# Altium schematic symbol library PBL - Light Sources.SCHLIB: 23 symbols
Pins are listed as number, name and electrical type; pins without a type are passive.

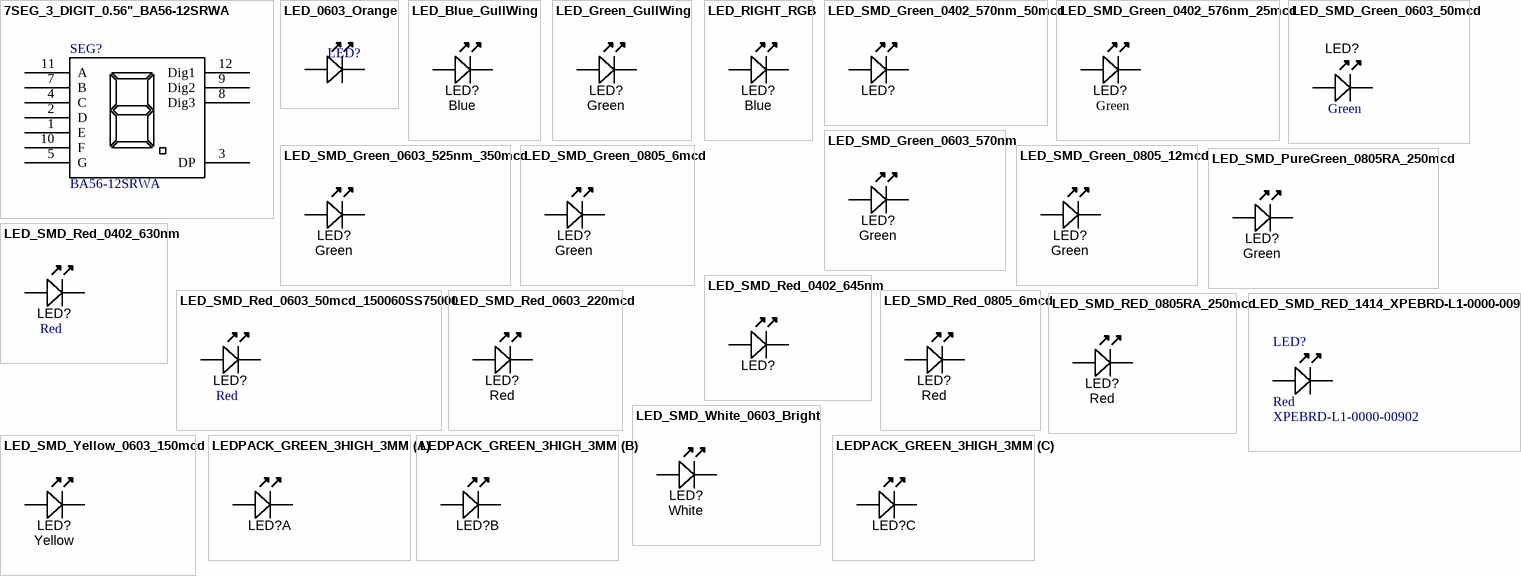
[diagram p0: symbols 7SEG_3_DIGIT_0.56"_BA56-12SRWA to LEDPACK_GREEN_3HIGH_3MM]

## 7SEG_3_DIGIT_0.56"_BA56-12SRWA
designator SEG?, comment BA56-12SRWA
Character LED Display Module Red 7-Segment 3 Character Common Anode 1.85V 20mA 1.480" H x 0.748" W x 0.319" D (37.60mm x 19.00mm x 8.10mm) 12-DIP (0.600", 15.24mm); Manufacturer: Kingbright; Number of Characters: 3; Digit/Alpha Size: 0.56" (14.22mm); Millicandela Rating: 34mcd; Wavelength - Peak: 660nm; Power Dissipation (Max): 75mW; Supplier 1: Digi-Key; Supplier Part Number 1: 754-1657-5-ND; RoHS: RoHS Compliant; Category: Optoelectronics; Stock 1: 4494; Pricing 1: 1=3.57, 10=2.975, 25=2.4992, 100=2.142, 250=1.904, 500=1.7255, 1000=1.5827, 2500=1.51725, 5000=1.4756 (USD); Packaging: Tube; Part Status: Active; Size / Dimension: 1.480" H x 0.748" W x 0.319" D (37.60mm x 19.00mm x 8.10mm); Display Type: 7-Segment; Common Pin: Common Anode; Color: Red; Voltage - Forward (Vf) (Typ): 1.85V; Current - Test: 20mA; Package / Case: 12-DIP (0.600", 15.24mm); ComponentLink1URL: http://www.kingbrightusa.com/images/catalog/SPEC/BA56-12SRWA.pdf; ComponentLink1Description: http://www.kingbrightusa.com/images/catalog/SPEC/BA56-12SRWA.pdf; Manufacturer Part Number: BA56-12SRWA
footprint 7SEG_3_DIGIT_0.56"_BA56-12SRWA
pins: 1 E, 2 D, 3 DP, 4 C, 5 G, 7 B, 8 Dig3, 9 Dig2, 10 F, 11 A, 12 Dig1

## LED_0603_Orange
designator LED?, comment LO L296-Q2S1-24-Z  (value not drawn)
LED ORANGE DIFFUSED 0603 SMD; Manufacturer: OSRAM Opto Semiconductors Inc.; Lens Color: White; Millicandela Rating: 157mcd; Lens Style/Size: Rectangle with Flat Top, 1.30mm x 0.80mm; Voltage - Forward (Vf) (Typ): 2V; Current - Test: 20mA; Viewing Angle: 160°; Wavelength - Dominant: 605nm; Supplier 1: Digi-Key; Manufacturer Part Number: LO L296-Q2S1-24-Z; Packaging: Cut Tape (CT); Part Status: Active; Color: Orange; Lens Transparency: Diffused; Mounting Type: Surface Mount; Wavelength - Peak: -; Features: -; Package / Case: 0603 (1608 Metric); Size / Dimension: 1.70mm L x 0.80mm W; Height (Max): 0.65mm; ComponentLink1URL: http://www.osram-os.com/Graphics/XPic9/00077122_0.pdf; ComponentLink1Description: http://www.osram-os.com/Graphics/XPic9/00077122_0.pdf; Supplier Part Number 1: 475-2739-1-ND; RoHS: RoHS Compliant; Category: Optoelectronics; Stock 1: 4435; Pricing 1: 1=0.34, 10=0.245, 25=0.2004, 100=0.1603, 250=0.13524, 500=0.11522, 1000=0.09017, 2500=0.08349 (USD)
footprint LED-0603-AMBER
pins: A, K

## LED_Blue_GullWing
designator LED?  Color: Blue  (hidden comment: *)
LED, Gull-wing SMD, High-intensity blue; Manufacturer 1: Ligitek; Manufacturer Part Number 1: LDBK9033/TR1; Ratings: 350 mcd; SCDType: source; Package / Case: 4.6mm Gull-Wing
footprint LED_GULL1
pins: A, K

## LED_Green_GullWing
designator LED?  Color: Green  (hidden comment: *)
LED Gull-wing SMD High-intensity Green 450mcd 574nm; Manufacturer 1: Ligitek; Manufacturer Part Number 1: L8UG9033/TR1; Ratings: 450 mcd; 574 nm; Material: AlGaInP; SCDType: source; Package / Case: 4.6mm Gull-Wing
footprint LED_GULL1
pins: A, K

## LED_RIGHT_RGB
designator LED?, comment Color: Blue  (hidden comment: APFA3010LSEEZGKQBKC)
Red, Green, Blue (RGB) 621nm Red, 525nm Green, 465nm Blue LED Indication - Discrete 2.1V Red, 3.1V Green, 3.1V Blue 4-SMD, No Lead; Manufacturer 1: Ligitek; Manufacturer Part Number 1: LDBK9033/TR1; Ratings: 350 mcd; SCDType: source; Package / Case: 4.6mm Gull-Wing; Supplier 1: Digi-Key; Supplier Part Number 1: 754-1971-1-ND
footprint LED_RIGHT_APFA3010LSEEZGKQBKC (LED RGB 621NM 525NM 465NM 4SMD)
pins: A, K

## LED_SMD_Green_0402_570nm_50mcd
designator LED?, comment APHHS1005CGCK  (value not drawn)
LED 0402SMD Green 570nm 50mcd 20mA; Supplier 1: Mouser; Supplier Part Number 1: 604-APHHS1005CGCK
footprint LED-0402-Green
pins: A, K

## LED_SMD_Green_0402_576nm_25mcd
designator LED?, comment Color: Green  (hidden comment: SML-P12M2TT86R)
LED 0402SMD Green 576nm 25mcd 20mA; Supplier 1: Digi-Key; Supplier Part Number 1: 846-1197-1-ND
footprint LED-0402-Green -ROHM
pins: A, K

## LED_SMD_Green_0603_50mcd
designator LED?, comment Color: Green  (hidden comment: APT1608CGCK)
Green 570nm LED Indication - Discrete 2.1V 0603 (1608 Metric); Manufacturer: Kingbright; Lens Color: Colorless; Lens Transparency: Clear; Millicandela Rating: 50mcd; Lens Style/Size: Rectangle with Flat Top, 1.20mm x 0.80mm; Current - Test: 20mA; Viewing Angle: 120°; Wavelength - Peak: 574nm; Supplier 1: Digi-Key; Supplier Part Number 1: 754-1116-1-ND; Manufacturer Part Number: APT1608CGCK; Packaging: Cut Tape (CT); Part Status: Active; Voltage - Forward (Vf) (Typ): 2.1V; Mounting Type: Surface Mount; Wavelength - Dominant: 570nm; Features: -; Package / Case: 0603 (1608 Metric); Supplier Device Package: Chip LED; Size / Dimension: 1.60mm L x 0.80mm W; Height (Max): 0.75mm; ComponentLink1URL: http://www.kingbrightusa.com/images/catalog/SPEC/APT1608CGCK.pdf; ComponentLink1Description: http://www.kingbrightusa.com/images/catalog/SPEC/APT1608CGCK.pdf; RoHS: RoHS Compliant; Category: Optoelectronics; Stock 1: 896844; Pricing 1: 1=0.47, 10=0.337, 25=0.258, 100=0.1683, 250=0.12344, 500=0.10472, 1000=0.08602 (USD)
footprint LED-0603-GREEN
pins: A, K

## LED_SMD_Green_0603_525nm_350mcd
designator LED?, comment Green
LED 0603 SMD Green 525nm 350mcd 20mA; Material: InGaN; Ratings: 200mcd min; 350 mcd typ @ 20mA; Voltage - Forward (Vf) @ 10mA: 3.1V; Viewing Angle: 120°; Lens Style/Size: Rectangle with Flat Top, 1.2mm x 0.8mm; Voltage - Forward (Vf) @ 20mA: 3.3V; SCDType: source; Package / Case: 0603 (1608 metric); Color: Green; Current - Test: 20mA; ComponentLink1URL: http://www.mouser.com/ds/2/216/APT1608ZGCK-262051.pdf; ComponentLink1Description: http://www.mouser.com/ds/2/216/APT1608ZGCK-262051.pdf; ComponentLink2Description: APT1608-WAP24 Datasheet; ComponentLink2URL: \\SVFI2\PBLShare\Eng\Electrical Engineering\Hardware\Altium\Libraries and Templates\Unreleased Components\Part Number Request 2013-10-02\APT1608-WAP24(Ver.1B).pdf; Supplier 1: Digi-Key; Supplier Part Number 1: 160-1183-1-ND
footprint LED-0603-GREEN
pins: A, K

## LED_SMD_Green_0603_570nm
designator LED?, comment Green
LED 0603 SMD Green 570nm 50mcd 20mA; Manufacturer 1: Kingbright Company LLC; Manufacturer Part Number 1: APT1608CGCK; Material: AlGaInP; Ratings: 20mcd min; 50 mcd typ; 570 nm; Voltage - Forward (Vf) Typ: 2.1V; Viewing Angle: 120°; Lens Style/Size: Rectangle with Flat Top, 1.1mm x 0.8mm; Voltage - Forward (Vf) @ 10mA: 2.0V; SCDType: source; Wavelength - Peak: 574nm; Lens Type: Clear; Package / Case: 0603 (1608 metric); Color: Green; Current - Test: 20mA; Supplier 1: Digi-Key; Supplier Part Number 1: 754-1116-1-ND; RoHS 1: RoHS Compliant; Wavelength - Dominant: 570nm; ComponentLink1URL: http://www.us.kingbright.com/images/catalog/SPEC/APT1608CGCK.pdf; ComponentLink1Description: http://www.us.kingbright.com/images/catalog/SPEC/APT1608CGCK.pdf
footprint LED-0603-GREEN
pins: A, K

## LED_SMD_Green_0805_6mcd
designator LED?  Color: Green
LED, 0805 SMD, Green; Manufacturer 1: LITE-ON; Manufacturer Part Number 1: LTST-C171GKT; Material: GaP; Ratings: 6 mcd; 569 nm; SCDType: source; Package / Case: 0805; Supplier 1: Digi-Key; Supplier Part Number 1: 160-1423-1-ND; Value: Green
footprint LED-0805-K
pins: A, K

## LED_SMD_Green_0805_12mcd
designator LED?, comment Green
LED 0805 SMD Green 12mcd 569nm; Manufacturer 1: LITE-ON; Manufacturer Part Number 1: LTST-C171GKT; Material: GaP; Ratings: 12 mcd; 569 nm; SCDType: source; Package / Case: 0805; Supplier 1: Digi-Key; Supplier Part Number 1: 160-1423-1-ND; Value: Green; Color: Green
footprint LED-0805-K
pins: A, K

## LED_SMD_PureGreen_0805RA_250mcd
designator LED?, comment Green
LED 0805 SIDELED SMD Green 250mcd 525nm; Manufacturer 1: Kingbright Corp; Manufacturer Part Number 1: APA2106ZGC; Material: InGaN; Ratings: 250 mcd; 525 nm; SCDType: source; Package / Case: 2.1x0.6x1.0mm SIDELED; Value: Green; Supplier 1: Digi-Key; Supplier Part Number 1: 754-1062-1-ND; Color: Green
footprint LED-0805S-SIDELED-2.1X0.6X1.0 (Lite-On Inc PLCC Side LED)
pins: A, K

## LED_SMD_Red_0402_630nm
designator LED?, comment Color: Red  (hidden comment: SML-P12VTT86R)
LED 0402SMD Red 630nm 60mcd 20mA; Supplier 1: Digi-Key; Supplier Part Number 1: 846-1168-1-ND
footprint LED-0402-Red -ROHM
pins: A, K

## LED_SMD_Red_0402_645nm
designator LED?, comment LNJ247W82RA  (value not drawn)
LED 0402SMD Red 645nm 49mcd 20mA
footprint LED-0402-Red
pins: A, K

## LED_SMD_Red_0603_50mcd_150060SS75000
designator LED?, comment Colour: Red  (hidden comment: 150060SS75000)
Red 630nm LED Indication - Discrete 1.9V 0603 (1608 Metric); Manufacturer: Wurth Electronics; Voltage - Forward (Vf) Typ: 1.95V; Description: WURTH ELEKTRONIK   150060SS75000   LED, 0603, SUP RED, 60MCD, 630NM; Luminous Intensity: 60mcd; Viewing Angle: 140°; Lens Style: Clear,Rectangular; Forward Current: 30mA; Test Current: 20mA; Voltage - Forward (Vf) @ 10mA: 1.9V; ComponentLink1URL: http://www.us.kingbright.com/images/catalog/SPEC/APT1608SURCK.pdf; ComponentLink1Description: http://www.us.kingbright.com/images/catalog/SPEC/APT1608SURCK.pdf; Supplier 1: Digi-Key; Supplier Part Number 1: 732-4979-6-ND; Stock 1: 20397; Pricing 1: 1=0.14, 50=0.129, 100=0.11, 500=0.095 (USD); Mount: Surface Mount; Case/Package: 0603; Case Code (Metric): 1608; Case Code (Imperial): 0603; Min Operating Temperature: -40°C; Max Operating Temperature: 85°C; Forward Voltage: 1.9V; Wavelength: 630nm; Package Quantity: 4000; Packaging: Tape and Reel; Dominant Wavelength: 630nm; Length: 1.6mm; Height: 0.7mm; Width: 0.8mm; REACH SVHC: Unknown; ComponentLink2URL: https://datasheet.ciiva.com/23843/150060ss75000-23843248.pdf; ComponentLink2Description: https://datasheet.ciiva.com/23843/150060ss75000-23843248.pdf; ComponentLink3URL: https://datasheet.ciiva.com/48430/150060ss75000-eng-tds-48430042.pdf; ComponentLink3Description: https://datasheet.ciiva.com/48430/150060ss75000-eng-tds-48430042.pdf; ComponentLink4URL: https://datasheet.ciiva.com/29279/759429-da-01-en-chipled-0603-w-kl-s-rot-150060ss75000-29279208.pdf; ComponentLink4Description: https://datasheet.ciiva.com/29279/759429-da-01-en-chipled-0603-w-kl-s-rot-150060ss75000-29279208.pdf; Manufacturer Part Number: 150060SS75000
footprint LED-0603-RED
pins: A, K

## LED_SMD_Red_0603_220mcd
designator LED?, comment Red
LED 0603 SMD Hyper Red 630nm 220mcd 20mA; Manufacturer 1: Kingbright Company LLC; Manufacturer Part Number 1: APT1608SURCK; Material: AlGaInP on GaAs; Ratings: 220 mcd; 630 nm; Voltage - Forward (Vf) Typ: 1.95V; Voltage - Forward (Vf) @ 10mA: 1.9V; SCDType: source; Package / Case: 0603 (1608 metric); Supplier 1: Digi-Key; Supplier Part Number 1: 754-1123-1-ND; ComponentLink1URL: http://www.us.kingbright.com/images/catalog/SPEC/APT1608SURCK.pdf; ComponentLink1Description: http://www.us.kingbright.com/images/catalog/SPEC/APT1608SURCK.pdf
footprint LED-0603-RED
pins: A, K

## LED_SMD_Red_0805_6mcd
designator LED?  Color: Red
LED 0805 SMD Red 6mcd 621nm; Manufacturer 1: Lite-On Inc; Manufacturer Part Number 1: LTST-C171EKT; Material: GaAsP on GaP; Ratings: 6 mcd; 621 nm; SCDType: source; Package / Case: 0805; Supplier 1: Digi-Key; Supplier Part Number 1: 160-1422-1-ND; Value: Red
footprint LED-0805-K
pins: A, K

## LED_SMD_RED_0805RA_250mcd
designator LED?, comment Red
LED SMD SIDELED Red 630nm 250mcd 0805; Manufacturer 1: Kingbright Corp; Manufacturer Part Number 1: APA2106SURCK; Material: Al-InGaN; Ratings: 250 mcd; 630 nm; SCDType: spec; Package / Case: 2.1x0.6x1.0mm SIDELED; Value: Red; Supplier 1: Digi-Key; Supplier Part Number 1: 754-1060-1-ND; Color: Red
footprint LED-0805S-SIDELED-2.1X0.6X1.0 (Lite-On Inc PLCC Side LED)
pins: A, K

## LED_SMD_RED_1414_XPEBRD-L1-0000-00902
designator LED?, comment Color: Red  (hidden comment: XPEBRD-L1-0000-00902)
LED Lighting Color XLamp® XP-E2 Red 623nm (620nm ~ 625nm) 1414 (3535 Metric); Manufacturer: Cree Inc.; Current - Test: 350mA; Voltage - Forward (Vf) (Typ): 2.2V; Lumens/Watt @ Current - Test: 109 lm/W; Current - Max: 1A; Flux @ Current/Temperature - Test: 84 lm (81 lm ~ 87 lm); Temperature - Test: 25°C; Viewing Angle: 130°; Thermal Resistance of Package: 5°C/W; Supplier 1: Digi-Key; Supplier Part Number 1: XPEBRD-L1-0000-00902CT-ND; RoHS: RoHS Compliant; Category: Optoelectronics; Stock 1: 2629; Pricing 1: 1=1.98, 10=1.881, 100=1.683, 250=1.53056, 500=1.43352 (USD); Packaging: Cut Tape (CT); Part Status: Active; Wavelength: 623nm (620nm ~ 625nm); Mounting Type: Surface Mount; Package / Case: 1414 (3535 Metric); Supplier Device Package: SMD; Size / Dimension: 0.136" L x 0.136" W (3.45mm x 3.45mm); Height - Seated (Max): 0.094" (2.39mm); ComponentLink1URL: http://www.cree.com/led-components/media/documents/XLampXPE2.pdf; ComponentLink1Description: http://www.cree.com/led-components/media/documents/XLampXPE2.pdf; Manufacturer Part Number: XPEBRD-L1-0000-00902
footprint Cree XLAMP E2
pins: 1 A, 2 K

## LED_SMD_White_0603_Bright
designator LED?, comment White
LED 0603 SMD Bright White 8700K; Manufacturer 1: Lite-On Inc; Manufacturer Part Number 1: LTW-C193TS5; Material: InGaN; Ratings: Ultra Bright; 8700K; Millicandela Rating: 230mcd; Voltage - Forward (Vf) Typ: 3.3V; Viewing Angle: 120°; Lens Type: Clear, Tinted; Lens Style/Size: Rectangle with Flat Top, 0.8mm x 1.1mm; Voltage - Forward (Vf) @ 10mA: 3.0V; SCDType: source; Package / Case: 0603 (1608 metric); Supplier 1: Digi-Key; Supplier Part Number 1: 160-1721-1-ND; Supplier 2: Digi-Key; Supplier Part Number 2: APT1608QWF/D-ND; Manufacturer 2: Kingbright Corp; Manufacturer Part Number 2: APT1608QWF/D; Color: White; Size / Dimension: 1.60mm L x 0.80mm W; Mounting Type: Surface Mount; Luminous Flux @ Current - Test: -; ComponentLink2URL: http://www.kingbrightusa.com/images/catalog/SPEC/APT1608QWF-D.pdf; ComponentLink2Description: http://www.kingbrightusa.com/images/catalog/SPEC/APT1608QWF-D.pdf; ComponentLink1URL: http://media.digikey.com/pdf/Data%20Sheets/Lite-On%20PDFs/LTW-C193TS5.pdf; ComponentLink1Description: http://media.digikey.com/pdf/Data%20Sheets/Lite-On%20PDFs/LTW-C193TS5.pdf
footprint LED-0603-WHITE
pins: A, K

## LED_SMD_Yellow_0603_150mcd
designator LED?, comment Yellow
LED 0603 SMD Yellow 590nm 150mcd 20mA; Manufacturer 1: Kingbright Company LLC; Manufacturer Part Number 1: APT1608SYCK; Material: AlGaInP on GaAs; Ratings: 150 mcd; 590 nm; Voltage - Forward (Vf) Typ: 2V; Voltage - Forward (Vf) @ 10mA: 1.95V; SCDType: source; Package / Case: 0603 (1608 metric); Supplier 1: Digi-Key; Supplier Part Number 1: 754-1124-1-ND; ComponentLink1URL: http://www.us.kingbright.com/images/catalog/SPEC/APT1608SYCK.pdf; ComponentLink1Description: http://www.us.kingbright.com/images/catalog/SPEC/APT1608SYCK.pdf
footprint LED-0603-YELLOW
pins: A, K

## LEDPACK_GREEN_3HIGH_3MM
designator LED?, comment Power status  (value not drawn)
LED array PCB mount 3-high 3mm green; Manufacturer 1: Dialight; Manufacturer Part Number 1: 564-0100-222F; Ratings: 10mcd; 20mA; Voltge Rating: 2.1V; Wavelength - Peak: 585nm; Viewing Angle: 60°; SCDType: spec; Package / Case: 3-high LED bar; Supplier 1: Digi-Key; Supplier Part Number 1: 350-1752-ND; ComponentLink2URL: http://www.dialight.com/Assets/Brochures_And_Catalogs/Indication/564-0x00-xxx.pdf; ComponentLink2Description: http://www.dialight.com/Assets/Brochures_And_Catalogs/Indication/564-0x00-xxx.pdf; Color: Green; Value: Green
footprint LED_3-HIGH_3MM (LED Circuit Board Indicator Tri-Level)
part A pins: A1, K1
part B pins: A2, K2
part C pins: A3, K3